# EAGLE library part TM4C123G (library TivaC-Series)
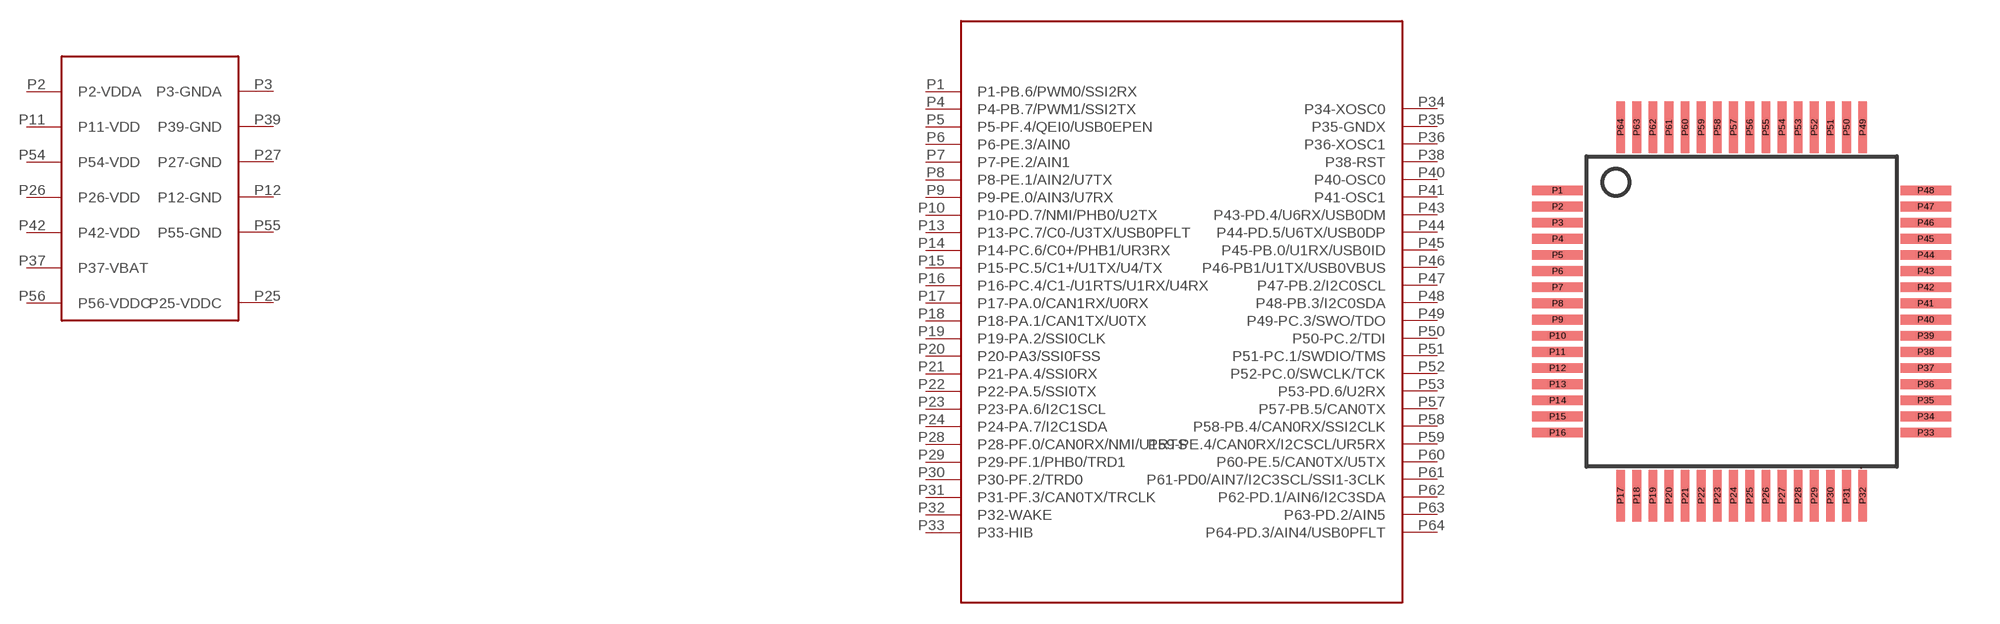
[diagram p0: symbol with the pads of LQFP64; footprint LQFP64]

Designator prefix -

## TM4C123G  [LQFP64]
P1  P1-PB.6/PWM0/SSI2RX
P2  P2-VDDA  pwr
P3  P3-GNDA  pwr
P4  P4-PB.7/PWM1/SSI2TX
P5  P5-PF.4/QEI0/USB0EPEN
P6  P6-PE.3/AIN0
P7  P7-PE.2/AIN1
P8  P8-PE.1/AIN2/U7TX
P9  P9-PE.0/AIN3/U7RX
P10  P10-PD.7/NMI/PHB0/U2TX
P11  P11-VDD  pwr
P12  P12-GND  pwr
P13  P13-PC.7/C0-/U3TX/USB0PFLT
P14  P14-PC.6/C0+/PHB1/UR3RX
P15  P15-PC.5/C1+/U1TX/U4/TX
P16  P16-PC.4/C1-/U1RTS/U1RX/U4RX
P17  P17-PA.0/CAN1RX/U0RX
P18  P18-PA.1/CAN1TX/U0TX
P19  P19-PA.2/SSI0CLK
P20  P20-PA3/SSI0FSS
P21  P21-PA.4/SSI0RX
P22  P22-PA.5/SSI0TX
P23  P23-PA.6/I2C1SCL
P24  P24-PA.7/I2C1SDA
P25  P25-VDDC  pwr
P26  P26-VDD  pwr
P27  P27-GND  pwr
P28  P28-PF.0/CAN0RX/NMI/U1RTS
P29  P29-PF.1/PHB0/TRD1
P30  P30-PF.2/TRD0
P31  P31-PF.3/CAN0TX/TRCLK
P32  P32-WAKE  in
P33  P33-HIB  out
P34  P34-XOSC0  in
P35  P35-GNDX
P36  P36-XOSC1
P37  P37-VBAT  pwr
P38  P38-RST  in
P39  P39-GND  pwr
P40  P40-OSC0
P41  P41-OSC1
P42  P42-VDD  pwr
P43  P43-PD.4/U6RX/USB0DM
P44  P44-PD.5/U6TX/USB0DP
P45  P45-PB.0/U1RX/USB0ID
P46  P46-PB1/U1TX/USB0VBUS
P47  P47-PB.2/I2C0SCL
P48  P48-PB.3/I2C0SDA
P49  P49-PC.3/SWO/TDO
P50  P50-PC.2/TDI
P51  P51-PC.1/SWDIO/TMS
P52  P52-PC.0/SWCLK/TCK
P53  P53-PD.6/U2RX
P54  P54-VDD  pwr
P55  P55-GND  pwr
P56  P56-VDDC  pwr
P57  P57-PB.5/CAN0TX
P58  P58-PB.4/CAN0RX/SSI2CLK
P59  P59-PE.4/CAN0RX/I2CSCL/UR5RX
P60  P60-PE.5/CAN0TX/U5TX
P61  P61-PD0/AIN7/I2C3SCL/SSI1-3CLK
P62  P62-PD.1/AIN6/I2C3SDA
P63  P63-PD.2/AIN5
P64  P64-PD.3/AIN4/USB0PFLT

## Footprint LQFP64 (pad centres in mm)
smd 1.6 x 0.3: P1 -5.7,3.75; P2 -5.7,3.25; P3 -5.7,2.75; P4 -5.7,2.25; P5 -5.7,1.75; P6 -5.7,1.25; P7 -5.7,0.75; P8 -5.7,0.25; P9 -5.7,-0.25; P10 -5.7,-0.75; P11 -5.7,-1.25; P12 -5.7,-1.75; P13 -5.7,-2.25; P14 -5.7,-2.75; P15 -5.7,-3.25; P16 -5.7,-3.75; P33 5.7,-3.75; P34 5.7,-3.25; P35 5.7,-2.75; P36 5.7,-2.25; P37 5.7,-1.75; P38 5.7,-1.25; P39 5.7,-0.75; P40 5.7,-0.25; P41 5.7,0.25; P42 5.7,0.75; P43 5.7,1.25; P44 5.7,1.75; P45 5.7,2.25; P46 5.7,2.75; P47 5.7,3.25; P48 5.7,3.75
smd 0.3 x 1.6: P17 -3.75,-5.7; P18 -3.25,-5.7; P19 -2.75,-5.7; P20 -2.25,-5.7; P21 -1.75,-5.7; P22 -1.25,-5.7; P23 -0.75,-5.7; P24 -0.25,-5.7; P25 0.25,-5.7; P26 0.75,-5.7; P27 1.25,-5.7; P28 1.75,-5.7; P29 2.25,-5.7; P30 2.75,-5.7; P31 3.25,-5.7; P32 3.75,-5.7; P49 3.75,5.7; P50 3.25,5.7; P51 2.75,5.7; P52 2.25,5.7; P53 1.75,5.7; P54 1.25,5.7; P55 0.75,5.7; P56 0.25,5.7; P57 -0.25,5.7; P58 -0.75,5.7; P59 -1.25,5.7; P60 -1.75,5.7; P61 -2.25,5.7; P62 -2.75,5.7; P63 -3.25,5.7; P64 -3.75,5.7